# EAGLE library part IDC-16 (library common)
CONNECTOR 10-pin series 057 contact pc board low profile headers
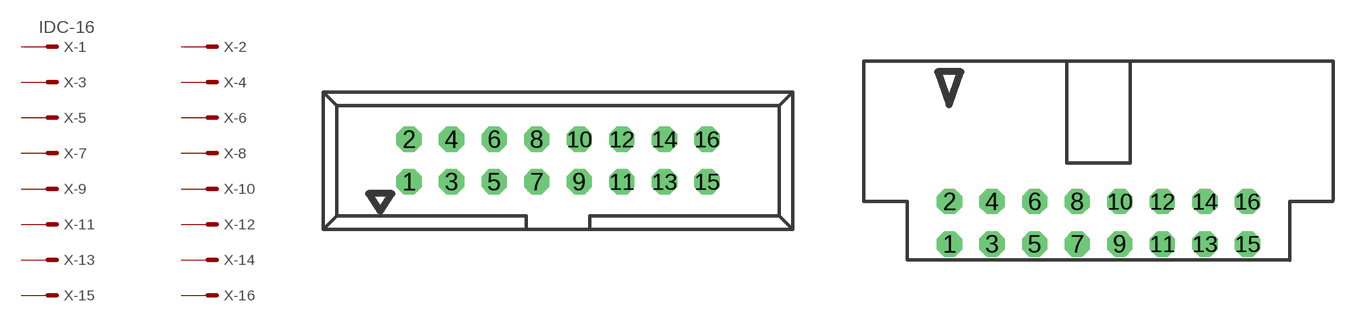
[diagram p18: symbol with the pads of 057-016-1; footprints 057-016-1, 057-016-0]

Designator prefix X; gates -1=MV-3 -2=M-3 -3=M-3 -4=M-3 -5=M-3 -6=M-3 -7=M-3 -8=M-3 -9=M-3 -10=M-3 -11=M-3 -12=M-3 -13=M-3 -14=M-3 -15=M-3 -16=M-3

## IDC-16V (OC_FARNELL: unknown; OC_NEWARK: unknown)  [057-016-1]
1  -1:S  pas
2  -2:S  pas
3  -3:S  pas
4  -4:S  pas
5  -5:S  pas
6  -6:S  pas
7  -7:S  pas
8  -8:S  pas
9  -9:S  pas
10  -10:S  pas
11  -11:S  pas
12  -12:S  pas
13  -13:S  pas
14  -14:S  pas
15  -15:S  pas
16  -16:S  pas

## IDC-16H  [057-016-0]
Pads as for 057-016-1

## Footprint 057-016-1 (pad centres in mm)
CONNECTOR series 057 contact pc board low profile headers straight
drill 1 octagon: 1 -8.89,-1.27; 2 -8.89,1.27; 3 -6.35,-1.27; 4 -6.35,1.27; 5 -3.81,-1.27; 6 -3.81,1.27; 7 -1.27,-1.27; 8 -1.27,1.27; 9 1.27,-1.27; 10 1.27,1.27; 11 3.81,-1.27; 12 3.81,1.27; 13 6.35,-1.27; 14 6.35,1.27; 15 8.89,-1.27; 16 8.89,1.27

## Footprint 057-016-0 (pad centres in mm)
CONNECTOR series 057 contact pc board low profile headers angled
drill 1 octagon: 1 -8.89,-5.08; 2 -8.89,-2.54; 3 -6.35,-5.08; 4 -6.35,-2.54; 5 -3.81,-5.08; 6 -3.81,-2.54; 7 -1.27,-5.08; 8 -1.27,-2.54; 9 1.27,-5.08; 10 1.27,-2.54; 11 3.81,-5.08; 12 3.81,-2.54; 13 6.35,-5.08; 14 6.35,-2.54; 15 8.89,-5.08; 16 8.89,-2.54